# Altium footprint library Imperial_SMD.PcbLib: 79 footprints (part 2 of 5)
Each footprint in its own frame and in the unit in brackets; x right, y up, seen from the top. Pads: shape width x height; smd on the part's side, far side on the other; paste and mask are expansions set on the pad; w line width, h text height; cw(c..) or ccw(c..) is an arc to the next point about the centre after c.
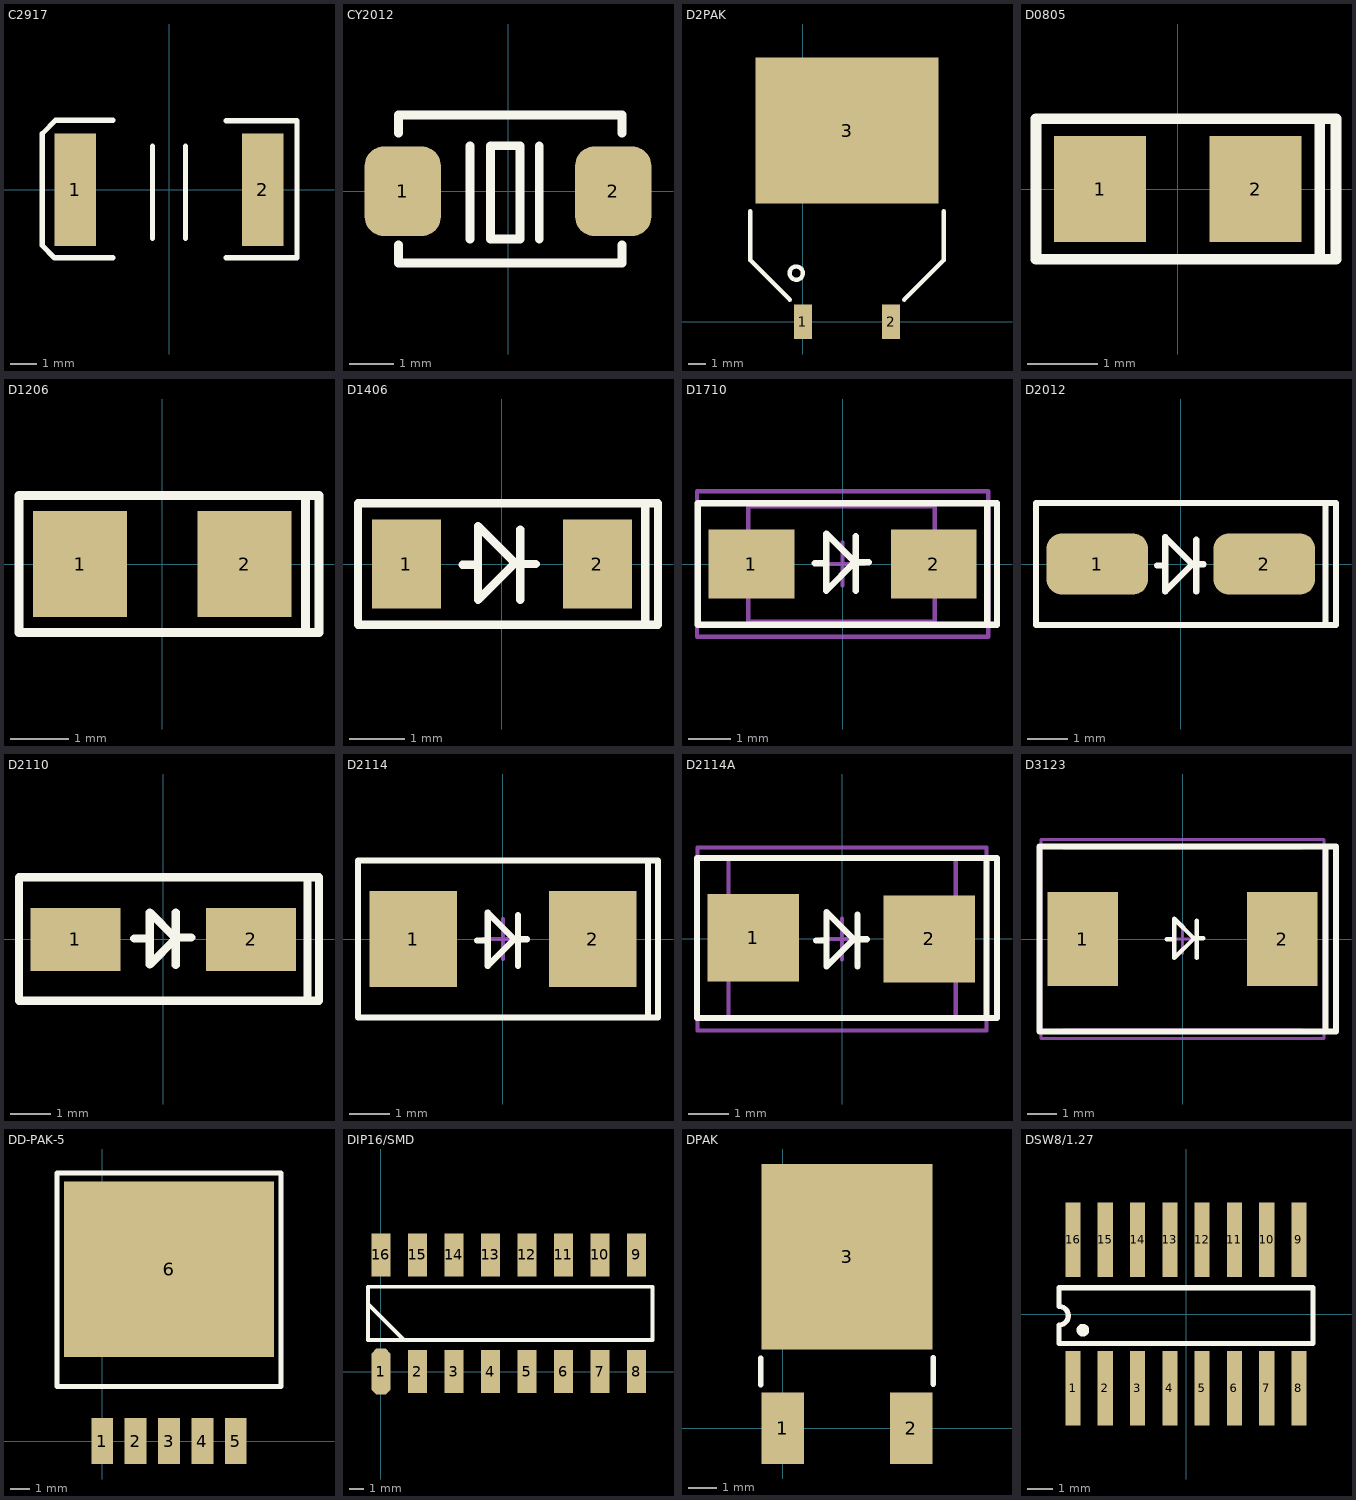
[diagram p1: the footprints below, top view; thin cyan lines are the x and y axes]

## C2917 [mil] "贴片极性电容2917, 290 x 170 mil高160,AXV标准E型"
height 160
pads (2):
  rect 62.99x170 smd: 1(-141.62,0) 2(141.62,0)
Top Overlay:
  lines w7.87: -84.62,-103 -173,-103 -191.62,-84.38 -191.62,84.38 -171,105 -84.62,105 ; -25,-74 -25,66 ; 25,-74 25,66 ; 86.38,-103 193.38,-103 193.38,104 86.38,104
3D body: height 160, standoff 1, extent -93.37,-84 -49.62,85
3D body: height 160, standoff 1, extent -49.62,-85 145.38,85
3D body: height 160, standoff 1, extent -144.93,-84 -93.62,85

## CY2012 [mm] "表贴石英晶体,200x120mil"
height 1.524
pads (2):
  rrect50% 1.7x2 smd: 1(-2.35,0) 2(2.35,0)
Top Overlay:
  lines w0.2: -2.45,-1.2 -2.45,-1.6 2.55,-1.6 2.55,-1.2 ; -2.45,1.3 -2.45,1.7 2.55,1.7 2.55,1.3 ; -0.851,-1.067 -0.851,1.016 ; 0.698,-1.067 0.698,1.016 ; -0.394,-1.067 0.266,-1.067 0.266,1.016 -0.394,1.016 -0.394,-1.067
3D body: height 2, standoff 0.2, extent -2.488,-1.6 2.512,1.524

## D2PAK [mm] "D2-PAK/TO-263-AB; 3 Leads (1 Cropped); Body 15.5 (inc. leads) x 10.5 mm (LxW max)"
height 4.69
pads (3):
  rect 1.05x2 smd: 1(0,0) 2(5.08,0)
  rect 10.55x8.4 smd: 3(2.54,11)
Top Overlay:
  circle w0.25: c-0.381,2.794 r0.381
  lines w0.254: -3.035,6.35 -3.035,3.543 -0.762,1.27 ; 5.842,1.27 8.115,3.543 8.115,6.35

## D0805 [mm] "0805二极管,80x50 mil"
height 1.016
pads (2):
  rect 1.3x1.5 smd: 1(-1.1,0) 2(1.1,0)
Top Overlay:
  lines w0.15: 2.007,-0.991 2.007,0.991 ; 2.007,-0.991 -2.007,-0.991 -2.007,0.991 2.007,0.991 ; 2.007,-0.991 2.235,-0.991 2.235,0.991 2.007,0.991
3D body: height 1.12, standoff 0.08, extent 0.4,-0.518 0.7,0.518
3D body: height 1.1, standoff 0.1, extent -1.1,-0.5 1.1,0.496
3D body: height 1.2, standoff 0, extent -1.35,-0.6 -1.05,0.595
3D body: height 1.2, standoff 0, extent 1.1,-0.6 1.4,0.595

## D1206 [mm] "Chip Diode; Body 3.2 x 1.6 mm (LxW typ)"
height 1.5
pads (2):
  rect 1.6x1.8 smd: 1(-1.4,0) 2(1.4,0)
Top Overlay:
  lines w0.15: 2.438,-1.168 -2.438,-1.168 -2.438,1.168 2.438,1.168 ; 2.438,-1.168 2.667,-1.168 2.667,1.168 2.438,1.168 ; 2.438,-1.168 2.438,1.168
3D body: height 0.61, standoff 0.03, extent -1.146,-0.66 1.115,0.648
3D body: height 0.66, standoff 0.03, extent -1.527,-0.686 -1.146,0.686
3D body: height 0.66, standoff 0.03, extent 1.115,-0.686 1.496,0.686

## D1406 [mm] "Metal Electrode Face (MELF) Diode; Body 3.5 x 1.5 mm (LxDia)"
height 1.5
pads (2):
  rect 1.25x1.6 smd: 1(-1.725,0) 2(1.725,0)
Top Overlay:
  lines w0.15: -0.711,-0.013 -0.432,-0.013 ; 0.33,-0.648 0.33,0.622 ; 0.33,0 0.61,0 ; 2.6,-1.1 -2.6,-1.1 -2.6,1.1 2.6,1.1 ; -0.432,-0.648 0.235,0.019 -0.432,0.686 -0.432,-0.648 ; 2.591,-1.1 2.591,1.1 2.819,1.1 2.819,-1.1 2.591,-1.1

## D1710 [mm] "SMA,Molded Diode, 2-Leads, Body 4.3*2.7mm, IPC Medium Density"
height 2.44
pads (2):
  rect 2x1.6 smd: 1(-2.127,0) 2(2.127,0)
Top Overlay:
  lines w0.15: 3.404,-1.422 -3.378,-1.422 -3.378,1.422 3.436,1.422 ; 3.378,-1.422 3.607,-1.422 3.607,1.422 3.378,1.422 3.378,-1.422
  lines w0.152: -0.643,0.013 -0.38,0.013 ; 0.305,-0.622 0.305,0.648 ; 0.609,0.044 0.286,0.044 ; 0.286,0.044 -0.38,-0.622 -0.38,0.711 0.286,0.044
Mechanical 13:
  lines w0.1: -2.199,-1.35 2.151,-1.35 2.151,1.35 -2.199,1.35 -2.199,-1.35
Mechanical 15:
  lines w0.1: -0.499,0 0.501,0 ; 0.001,-0.5 0.001,0.5 ; -3.399,-1.7 3.401,-1.7 3.401,1.7 -3.399,1.7 -3.399,-1.7
3D body "User Library-DIOM5528X26.STEP": height 2.6, standoff 0.03, extent -2.852,-1.422 2.648,1.378

## D2012 [mm] "2012 二极管, 典型SS14"
height 3.2
pads (2):
  rrect50% 2.5x1.5 smd: 1(-2.05,0) 2(2.05,0)
Top Overlay:
  lines w0.15: 3.581,1.5 -3.556,1.5 -3.556,-1.5 3.556,-1.5 ; 3.556,-1.5 3.556,1.5 3.81,1.5 3.81,-1.5 3.556,-1.5
  lines w0.152: -0.584,-0.038 -0.381,-0.038 ; 0.381,-0.673 0.381,0.597 ; 0.559,-0.006 0.286,-0.006 ; 0.286,-0.006 -0.381,-0.673 -0.381,0.66 0.286,-0.006
3D body: height 2.2, standoff 0.2, extent -2.456,-1.5 2.544,1.5

## D2110 [mm] "SMA,D0-214AC,Body 5.3*2.6mm"
height 2.62
pads (2):
  rect 2.2x1.55 smd: 1(-2.15,0) 2(2.15,0)
Top Overlay:
  lines w0.2: -0.711,0.025 -0.33,0.025 ; 0.305,-0.625 0.305,0.66 ; 0.305,0.051 0.686,0.051 ; 3.556,-1.5 -3.531,-1.5 -3.531,1.524 3.556,1.524 ; 3.809,-1.5 3.531,-1.5 3.531,1.524 3.81,1.524 3.81,-1.499 ; -0.33,-0.61 0.305,0.025 -0.33,0.66 -0.33,-0.61
3D body: height 5.32, standoff -5.32, extent -2.7,-1.5 2.7,1.524

## D2114 [mm] "SMB,DO-214AA,2-Leads, Body 5.3x3.6mm"
height 2.44
pads (2):
  rect 2.2x2.4 smd: 1(-2.25,0) 2(2.25,0)
Top Overlay:
  lines w0.15: 3.632,-1.97 -3.632,-1.97 -3.632,1.97 3.632,1.97 ; 3.632,-1.97 3.632,1.97 ; 3.632,-1.97 3.886,-1.97 3.886,1.97 3.632,1.97
  lines w0.152: -0.644,-0.038 -0.381,-0.038 ; 0.381,-0.673 0.381,0.597 ; 0.608,-0.006 0.286,-0.006 ; 0.286,-0.006 -0.381,0.66 -0.381,-0.673 0.286,-0.006
Mechanical 15:
  lines w0.1: -0.5,0 0.5,0 ; 0,-0.5 0,0.5
3D body "SW3dPS-DO-214AA SMB.STEP": height 2.3, standoff 0, extent -2.573,-1.88 2.827,1.72

## D2114A [mm] "Molded Diode, 2-Leads, Body 5.3x3.6mm, IPC Medium Density"
height 2.62
pads (2):
  rect 2.25x2.15 smd: 1(-2.184,0.025) 2(2.15,0)
Top Overlay:
  lines w0.15: 3.698,-1.945 -3.567,-1.945 -3.567,1.995 3.698,1.995 ; 3.55,-1.945 3.81,-1.945 3.81,1.995 3.55,1.995 3.55,-1.945
  lines w0.152: -0.644,-0.038 -0.381,-0.038 ; 0.381,-0.673 0.381,0.597 ; 0.608,-0.006 0.286,-0.006 ; 0.286,-0.006 -0.381,-0.673 -0.381,0.66 0.286,-0.006
Mechanical 13:
  lines w0.1: -2.795,-1.97 -2.795,1.97 2.795,1.97 2.795,-1.97 -2.795,-1.97
Mechanical 15:
  lines w0.1: -0.5,0 0.5,0 ; 0,-0.5 0,0.5 ; -3.55,-2.25 -3.55,2.25 3.55,2.25 3.55,-2.25 -3.55,-2.25
3D body "SW3dPS-DO-214AA SMB.STEP": height 2.3, standoff 0, extent -2.725,-1.778 2.675,1.822

## D3123 [mm] "SMC, DO-214AB,Molded Diode, 2-Leads, Body 7.9x5.9mm, IPC Medium Density"
height 2.62
pads (2):
  rect 2.4x3.2 smd: 1(-3.4,0) 2(3.4,0)
Top Overlay:
  lines w0.152: -0.542,-0.013 -0.279,-0.013 ; 0.483,-0.648 0.483,0.622 ; 0.71,0.019 0.387,0.019 ; 0.387,0.019 -0.279,0.686 -0.279,-0.648 0.387,0.019
  lines w0.2: 4.877,-3.15 4.877,3.15 ; 4.877,-3.15 -4.877,-3.15 -4.877,3.15 4.877,3.15 ; 4.877,-3.15 5.232,-3.15 5.232,3.15 4.877,3.15
Mechanical 13:
  lines w0.1: -4.065,-3.11 4.065,-3.11 ; -4.065,3.11 4.065,3.11
Mechanical 15:
  lines w0.1: -0.5,0 0.5,0 ; 0,-0.5 0,0.5 ; -4.825,-3.4 -4.825,3.4 4.825,3.4 4.825,-3.4 -4.825,-3.4
3D body "User Library-DO-214AB-SMC.STEP": height 2.4, standoff -0.05, extent -3.849,-3.001 3.951,2.899

## DD-PAK-5 [mil]
height 180
pads (6):
  rect 44x92 smd: 1(0,0) 2(67,0) 3(134,0) 4(201,0) 5(268,0)
  rect 422x352 smd: 6(134,345)
Top Overlay:
  lines w10: -91,110 -91,537.5 359,537.5 359,110 -91,110
3D body "LTC DD-PAK-5.STEP": height 176.56, standoff 0, extent -68,-38.5 334.5,526.5

## DIP16/SMD [mm] "DIP16表贴版本,光耦等"
height 5.08
pads (16):
  oct 1.35x3.2 smd: 1(0,0)
  rect 1.35x3 smd: 2(2.54,0) 3(5.08,0) 4(7.62,0) 5(10.16,0) 6(12.7,0) 7(15.24,0) 8(17.78,0) 9(17.78,8.12) 10(15.24,8.12) 11(12.7,8.12) 12(10.16,8.12) 13(7.62,8.12) 14(5.08,8.12) 15(2.54,8.12) 16(0,8.12)
Top Overlay:
  lines w0.254: 2.3,2.2 1.6,2.2 -0.9,4.7 -0.9,5.9 ; -0.9,5.9 18.9,5.9 18.9,2.2 -0.9,2.2 -0.9,5.9

## DPAK [mil]
height 98.43
pads (3):
  rect 60x100 smd: 1(0,0) 2(180,0)
  rect 240x260 smd: 3(90,240)
Top Overlay:
  lines w7.87: -31,61 -31,98 ; 211,62 211,99

## DSW8/1.27 [mil] "兼容SO-16与SOIC-16封装,8位拨码开关3D"
height 78.74
pads (16):
  rect 23.62x115 smd: 1(-175,-115) 2(-125,-115) 3(-75,-115) 4(-25,-115) 5(25,-115) 6(75,-115) 7(125,-115) 8(175,-115) 9(175,115) 10(125,115) 11(75,115) 12(25,115) 13(-25,115) 14(-75,115) 15(-125,115) 16(-175,115)
Top Overlay:
  circle w9.84: c-159.92,-25 r4.92
  lines w7.87: -196.85,-45.95 196.85,-45.95 196.85,40.67 -196.85,40.67 -196.85,11.8 cw(c-196.85,-2.64) -196.85,-17.07 -196.85,-45.95
3D body: height 40, standoff 5, extent 120.25,-29.5 151,41.5
3D body: height 40, standoff 5, extent 82.25,-29.5 113,41.5
3D body: height 40, standoff 5, extent 44.25,-29.5 75,41.5
3D body: height 40, standoff 5, extent 7.25,-29.5 38,41.5
3D body: height 40, standoff 5, extent -30.75,-29.5 0,41.5
3D body: height 40, standoff 5, extent -70.75,-29.5 -40,41.5
3D body: height 40, standoff 5, extent -107.75,-29.5 -77,41.5
3D body: height 40, standoff 5, extent -145.75,-29.5 -115,41.5
3D body: height 66, standoff 5, extent 7.62,-39 38.38,1.23
3D body: height 66, standoff 5, extent 44.25,-39.11 75,1.11
3D body: height 66, standoff 5, extent 81.62,-39 112.38,1.23
3D body: height 66, standoff 5, extent 120.62,-39 151.38,1.23
3D body: height 66, standoff 5, extent -31.38,-39 -0.62,1.23
3D body: height 66, standoff 5, extent -70.38,-39 -39.62,1.23
3D body: height 66, standoff 5, extent -107.75,-39.11 -77,1.11
3D body: height 20, standoff 5, extent -194.37,-105 205,108.23
3D body: height 60, standoff 5, extent -194.69,-106 -155.31,107.23
3D body: height 60, standoff 5, extent 164,-105.61 203.37,107.61
3D body: height 60, standoff 5, extent -159,41 164.75,108.11
3D body: height 60, standoff 5, extent -156.75,-105.11 165,-42
3D body: height 66, standoff 5, extent -144.38,-39 -113.62,1.23